# Altium footprint library BCS-116-F-S-TE.PcbLib: 1 footprints
Each footprint in its own frame and in the unit in brackets; x right, y up, seen from the top. Pads: shape width x height; smd on the part's side, far side on the other; paste and mask are expansions set on the pad; w line width, h text height; cw(c..) or ccw(c..) is an arc to the next point about the centre after c.
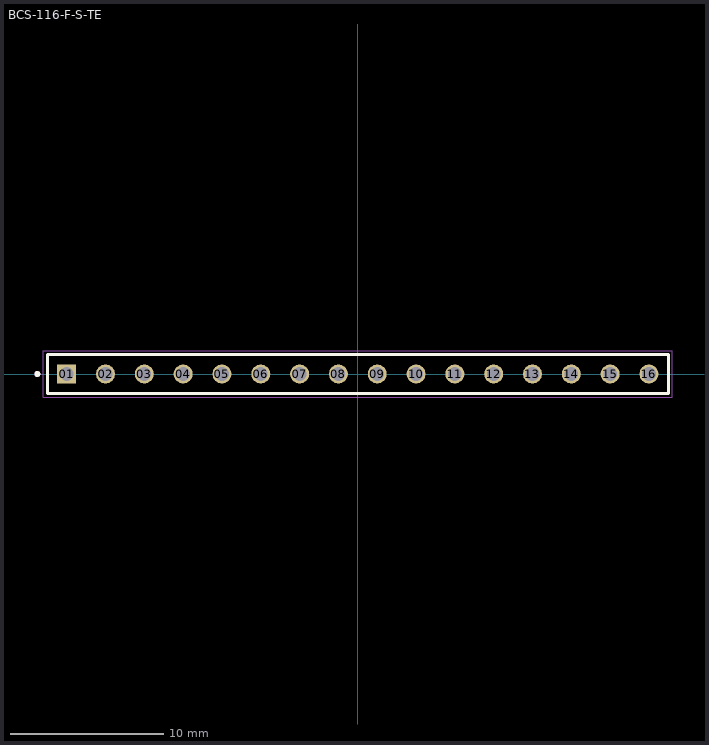
[diagram p0: the footprint, top view; thin cyan lines are the x and y axes]

## BCS-116-F-S-TE [mm]
pads (16):
  rect 1.24x1.24 / inner round 1.24 / far side rect 1.24x1.24 hole 0.89: 01(-19.05,0)
  round 1.24 hole 0.89: 02(-16.51,0) 03(-13.97,0) 04(-11.43,0) 05(-8.89,0) 06(-6.35,0) 07(-3.81,0) 08(-1.27,0) 09(1.27,0) 10(3.81,0) 11(6.35,0) 12(8.89,0) 13(11.43,0) 14(13.97,0) 15(16.51,0) 16(19.05,0)
Top Overlay:
  circle w0.2: c-20.97,0 r0.1
  lines w0.2: -20.32,-1.27 -20.32,1.27 20.32,1.27 20.32,-1.27 -20.32,-1.27
Assembly Top:
  circle w0.2: c-20.97,0 r0.1
  lines w0.1: -20.32,-1.27 -20.32,1.27 20.32,1.27 20.32,-1.27 -20.32,-1.27
Courtyard Top:
  lines w0.05: -20.57,-1.52 -20.57,1.52 20.57,1.52 20.57,-1.52 -20.57,-1.52
3D body "BCS-116-F-S-TE.stp": height 7.67, standoff -2.79, extent -20.32,-1.27 20.32,1.27